# EAGLE library part MCP1640 (library karlnet-parts)
MCP1623, 1624, 1640/B/C/D pwm/pfm or pwm only DC/DC converters, in SOT-23
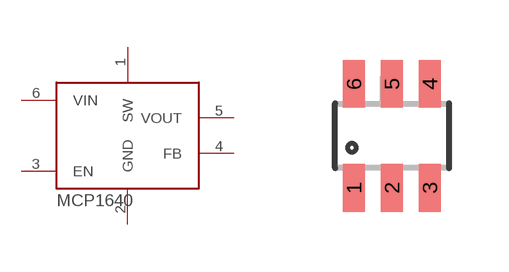
[diagram p3: symbol with the pads of SOT23-6; footprint SOT23-6]

Designator prefix U

## MCP1640  [SOT23-6]
1  SW  out
2  GND  sup
3  EN  in
4  FB  in
5  VOUT  pwr
6  VIN  in

## Footprint SOT23-6 (pad centres in mm)
smd 0.55 x 1.2: 1 -0.95,-1.3; 2 0,-1.3; 3 0.95,-1.3; 4 0.95,1.3; 5 0,1.3; 6 -0.95,1.3